# Altium schematic symbol library Sensors.SchLib: 2 symbols
Pins are listed as number, name and electrical type; pins without a type are passive.

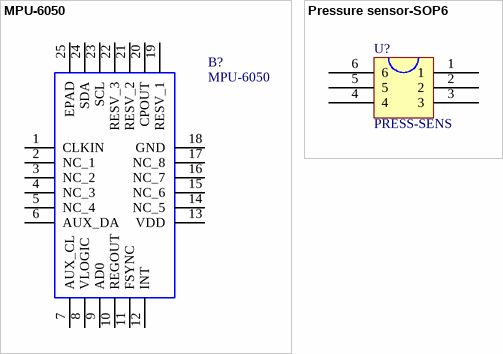
[diagram p0: symbols MPU-6050 to Pressure sensor-SOP6]

## MPU-6050
designator B?
IMU ACCEL/GYRO 3-AXIS I2C 24QFN; Manufacturer_Name: TDK InvenSense; Geometry.Height: 0.95mm; Manufacturer_Part_Number: MPU-6050; RS Part Number: *; RS Price/Stock: *; Mouser Part Number: N/A; Mouser Price/Stock: http://www.mouser.com/Search/ProductDetail.aspx?qs=u4fy%2fsgLU9O14B5JgyQFvg%3d%3d; Datasheet Link: https://www.invensense.com/wp-content/uploads/2015/02/MPU-6000-Datasheet1.pdf
footprint QFN50P400X400X95-25N
pins: 1 CLKIN, 2 NC_1, 3 NC_2, 4 NC_3, 5 NC_4, 6 AUX_DA, 7 AUX_CL, 8 VLOGIC, 9 AD0, 10 REGOUT, 11 FSYNC, 12 INT, 13 VDD, 14 NC_5, 15 NC_6, 16 NC_7, 17 NC_8, 18 GND, 19 RESV_1, 20 CPOUT, 21 RESV_2, 22 RESV_3, 23 SCL, 24 SDA, 25 EPAD

## Pressure sensor-SOP6
designator U?, comment PRESS-SENS
footprint Pressure sensor-SOP6 (MPS20N0040D-S, XGZP160)
pins: 1, 2, 3, 4, 5, 6
2 alternate drawings of the same symbol